# Altium schematic symbol library la150p.SchLib: 1 symbol
Pins are listed as number, name and electrical type; pins without a type are passive.

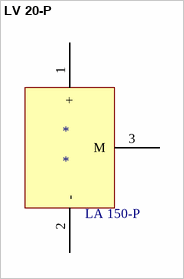
[diagram p0: symbol LV 20-P]

## LV 20-P
designator *
pins: 1 + "Positive Supply", 2 - "Negative Supply", 3 M "Measurement signal"
text: LA 150-P